# Altium schematic symbol library ES3D_DO214AB.SchLib: 1 symbol
Pins are listed as number, name and electrical type; pins without a type are passive.

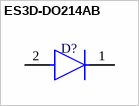
[diagram p0: symbol ES3D-DO214AB]

## ES3D-DO214AB
designator D?  (value not drawn)
ES3D-DO214AB
footprint DO214-AB
pins: 1 C, 2 A